# Altium footprint library hsbest3.PcbLib: 363 footprints (part 7 of 23)
Each footprint in its own frame and in the unit in brackets; x right, y up, seen from the top. Pads: shape width x height; smd on the part's side, far side on the other; paste and mask are expansions set on the pad; w line width, h text height; cw(c..) or ccw(c..) is an arc to the next point about the centre after c.
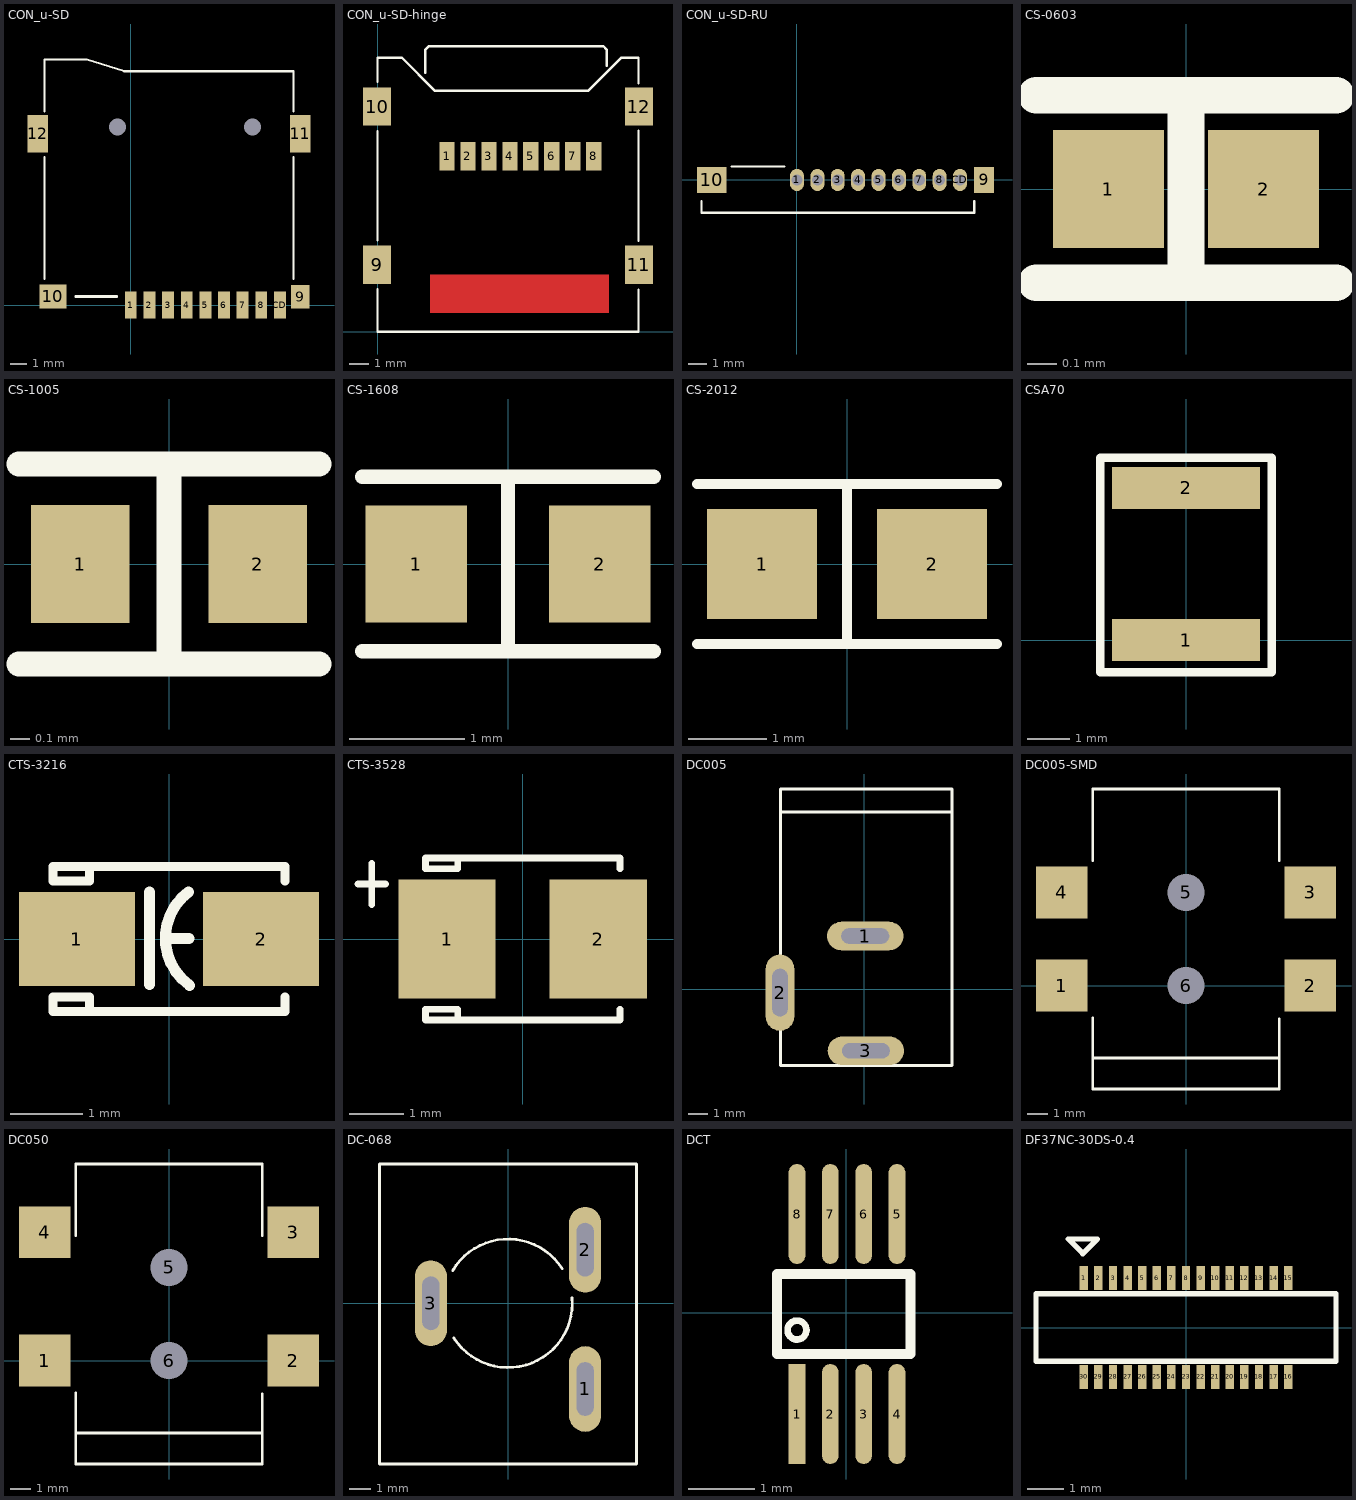
[diagram p6: the footprints below, top view; thin cyan lines are the x and y axes]

## CON_u-SD [mm]
pads (15):
  rect 0.7x1.6 smd: 1(0,0) 2(1.105,0) 3(2.201,0) 4(3.303,0) 5(4.407,0) 6(5.504,0) 7(6.6,0) 8(7.705,0) CD(8.801,0)
  rect 1.1x1.4 smd: 9(10.006,0.499)
  rect 1.6x1.4 smd: 10(-4.596,0.508)
  rect 1.2x2.2 smd: 11(10.012,10.108) 12(-5.497,10.108)
  round 0.3 hole 1: 13(7.198,10.509) 14(-0.79,10.513)
Top Overlay:
  lines w0.127: -5.097,1.533 -5.097,8.733 ; -5.097,11.433 -5.097,14.507 -2.597,14.507 -0.397,13.807 9.603,13.807 9.603,11.433 ; 9.603,1.533 9.603,8.733 ; -3.269,0.483 -0.822,0.483 -0.822,0.535 -3.269,0.535 -3.269,0.483

## CON_u-SD-hinge [mm]
pads (12):
  rect 0.8x1.5 smd: 1(3.65,9.225) 2(4.75,9.225) 3(5.85,9.225) 4(6.95,9.225) 5(8.05,9.225) 6(9.15,9.225) 7(10.25,9.225) 8(11.35,9.225)
  rect 1.45x2 smd: 9(-0.025,3.525) 10(-0.025,11.825) 11(13.725,3.525) 12(13.725,11.825)
Top Layer:
  pour cut-out: 2.78,3 2.78,1 12.13,1 12.13,3
Top Overlay:
  lines w0.127: 0,2.25 0,0 13.7,0 13.7,2.225 ; 0,4.8 0,10.525 ; 0,13.125 0,14.4 1.275,14.4 3.025,12.65 11.05,12.65 12.8,14.4 13.7,14.4 13.7,13.05 ; 2.5,13.6 2.5,14.8 2.7,15 11.85,15 12.025,14.825 12.025,13.975 ; 13.7,4.775 13.7,10.55

## CON_u-SD-RU [mm]
pads (11):
  oval 0.75x1.2 hole 0.6: 1(0,0) 2(1.105,0) 3(2.201,0) 4(3.303,0) 5(4.407,0) 6(5.504,0) 7(6.6,0) 8(7.705,0) CD(8.801,0)
  rect 1.1x1.4 smd: 9(10.1,0)
  rect 1.6x1.4 smd: 10(-4.596,0)
Top Overlay:
  lines w0.127: -5.15,-1.15 -5.15,-1.775 9.575,-1.775 9.575,-1.15 ; -3.525,0.725 -0.675,0.725

## CS-0603 [mm]
pads (2):
  rect 0.375x0.4 smd: 1(-0.262,0) 2(0.262,0)
Top Overlay:
  lines w0.125: -0.508,-0.318 0.508,-0.318 ; -0.508,0.318 0.508,0.318 ; 0,-0.254 0,0.254

## CS-1005 [mm]
pads (2):
  rect 0.5x0.6 smd: 1(-0.45,0) 2(0.45,0)
Top Overlay:
  lines w0.125: -0.762,-0.508 0,-0.508 ; -0.762,0.508 0,0.508 ; 0.762,-0.508 0,-0.508 ; 0.762,0.508 0,0.508 ; 0,-0.508 0,0.508 ; 0,-0.508 0,0.508

## CS-1608 [mil]
pads (2):
  rect 35x40 smd: 1(-31.5,0) 2(31.5,0)
Top Overlay:
  lines w4.92: -50,-30 50,-30 ; -50,30 50,30 ; 0,-30 0,30

## CS-2012 [mil]
pads (2):
  rect 55x55 smd: 1(-42.5,0) 2(42.5,0)
Top Overlay:
  lines w4.92: -75,-40 75,-40 ; -75,40 75,40 ; 0,-40 0,40

## CSA70 [mm]
pads (2):
  rect 3.5x1 smd: 1(0,0) 2(0,3.6)
Top Overlay:
  lines w0.2: -2.032,-0.762 2.032,-0.762 2.032,4.318 -2.032,4.318 -2.032,-0.762

## CTS-3216 [mil]
pads (2):
  rect 63x51 smd: 1(-50,0) 2(50,0)
Top Overlay:
  lines w4.92: 62.99,-31.5 62.99,-39.37 -62.99,-39.37 ; 62.99,31.5 62.99,39.37 -62.99,39.37 ; -62.99,-39.37 -62.99,-31.5 ; -62.99,-39.37 -43.31,-39.37 -43.31,-31.5 -62.99,-31.5 ; -62.99,-39.37 -62.99,-31.5 ; -62.99,31.5 -62.99,39.37 ; -62.99,31.5 -43.31,31.5 -43.31,39.37 -62.99,39.37 ; -62.99,31.5 -62.99,39.37
  lines w6: -10.48,-24.61 -10.48,25.39 ; 0.52,0.39 10.83,0.39 ; 10.66,25.62 ccw(c29.51,0.39) 11.12,-25.18

## CTS-3528 [mil]
pads (2):
  rect 71x87 smd: 1(-55.12,0) 2(55.12,0)
Top Overlay:
  lines w4.92: -120,40 -100,40 ; -110,25 -110,55 ; 70.87,-51.18 70.87,-59.06 -70.87,-59.06 ; 70.87,51.18 70.87,59.06 -70.87,59.06 ; -70.87,-59.06 -70.87,-51.18 ; -70.87,-59.06 -47.24,-59.06 -47.24,-51.18 -70.87,-51.18 ; -70.87,-59.06 -70.87,-51.18 ; -70.87,51.18 -70.87,59.06 ; -70.87,51.18 -47.24,51.18 -47.24,59.06 -70.87,59.06 ; -70.87,51.18 -70.87,59.06

## DC005 [mm]
pads (3):
  oval 4x1.5 hole 0.8 slot 2.5 at 0 deg: 1(0.059,2.779) 3(0.092,-3.243)
  oval 1.5x4 hole 0.8 slot 2.5 at 90 deg: 2(-4.41,-0.191)
Top Overlay:
  lines w0.15: -4.384,9.29 4.616,9.29 ; -4.384,-4.01 4.616,-4.01 4.616,10.49 -4.384,10.49 -4.384,-4.01

## DC005-SMD [mm]
pads (6):
  rect 2.5x2.5 smd: 1(-6,0) 2(6,0) 3(6,4.5) 4(-6,4.5)
  round 1.524 hole 1.8: 5(0,4.5) 6(0,0)
Top Overlay:
  lines w0.127: -4.5,-3.5 4.5,-3.5 ; -4.5,-1.55 -4.5,-5 4.5,-5 4.5,-1.6 ; -4.5,6.025 -4.5,9.5 4.5,9.5 4.5,6.025

## DC050 [mm]
pads (6):
  rect 2.5x2.5 smd: 1(-6,0) 2(6,0) 3(6,6.2) 4(-6,6.2)
  round 1.524 hole 1.8: 5(0,4.5) 6(0,0)
Top Overlay:
  lines w0.127: -4.5,-3.5 4.5,-3.5 ; -4.5,-1.55 -4.5,-5 4.5,-5 4.5,-1.6 ; -4.5,6.025 -4.5,9.5 4.5,9.5 4.5,6.025

## DC-068 [mm]
pads (3):
  oval 1.5x4 hole 0.8 slot 2.5 at 90 deg: 1(3.6,-4) 2(3.6,2.5) 3(-3.6,0)
Top Overlay:
  lines w0.127: -2.583,1.525 cw(c0,0) 2.527,1.616 ; -2.527,-1.616 ccw(c0,0) 2.989,0.26
  lines w0.15: -6,-7.5 6,-7.5 6,6.5 -6,6.5 -6,-7.5

## DCT [mm] "SN74AVCxt"
pads (8):
  rect 0.25x1.5 smd: 1(-0.741,-1.52)
  oval 0.25x1.5 smd: 2(-0.241,-1.52) 3(0.259,-1.52) 4(0.759,-1.52) 5(0.759,1.48) 6(0.259,1.48) 7(-0.241,1.48) 8(-0.741,1.48)
Top Overlay:
  circle w0.1: c-0.741,-0.261 r0.141
  lines w0.15: -1.041,-0.62 0.959,-0.62 0.959,0.58 -1.041,0.58 -1.041,0.18 -1.041,-0.22 -1.041,-0.62

## DF37NC-30DS-0.4 [mm]
pads (30):
  rect 0.23x0.66 smd: 1(-2.8,1.355) 2(-2.4,1.355) 3(-2,1.355) 4(-1.6,1.355) 5(-1.2,1.355) 6(-0.8,1.355) 7(-0.4,1.355) 8(0,1.355) 9(0.4,1.355) 10(0.8,1.355) 11(1.2,1.355) 12(1.6,1.355) 13(2,1.355) 14(2.4,1.355) 15(2.8,1.355) 16(2.8,-1.355) 17(2.4,-1.355) 18(2,-1.355) 19(1.6,-1.355) 20(1.2,-1.355) 21(0.8,-1.355) 22(0.4,-1.355) 23(0,-1.355) 24(-0.4,-1.355) 25(-0.8,-1.355) 26(-1.2,-1.355) 27(-1.6,-1.355) 28(-2,-1.355) 29(-2.4,-1.355) 30(-2.8,-1.355)
Top Overlay:
  lines w0.15: -4.11,-0.925 4.11,-0.925 4.11,0.925 -4.11,0.925 -4.11,-0.925 ; -3.225,2.425 -2.425,2.425 -2.825,2.025 -3.225,2.425